# Altium footprint library HTL-part-2021_04.pcblib: 93 footprints (part 3 of 6)
Each footprint in its own frame and in the unit in brackets; x right, y up, seen from the top. Pads: shape width x height; smd on the part's side, far side on the other; paste and mask are expansions set on the pad; w line width, h text height; cw(c..) or ccw(c..) is an arc to the next point about the centre after c.
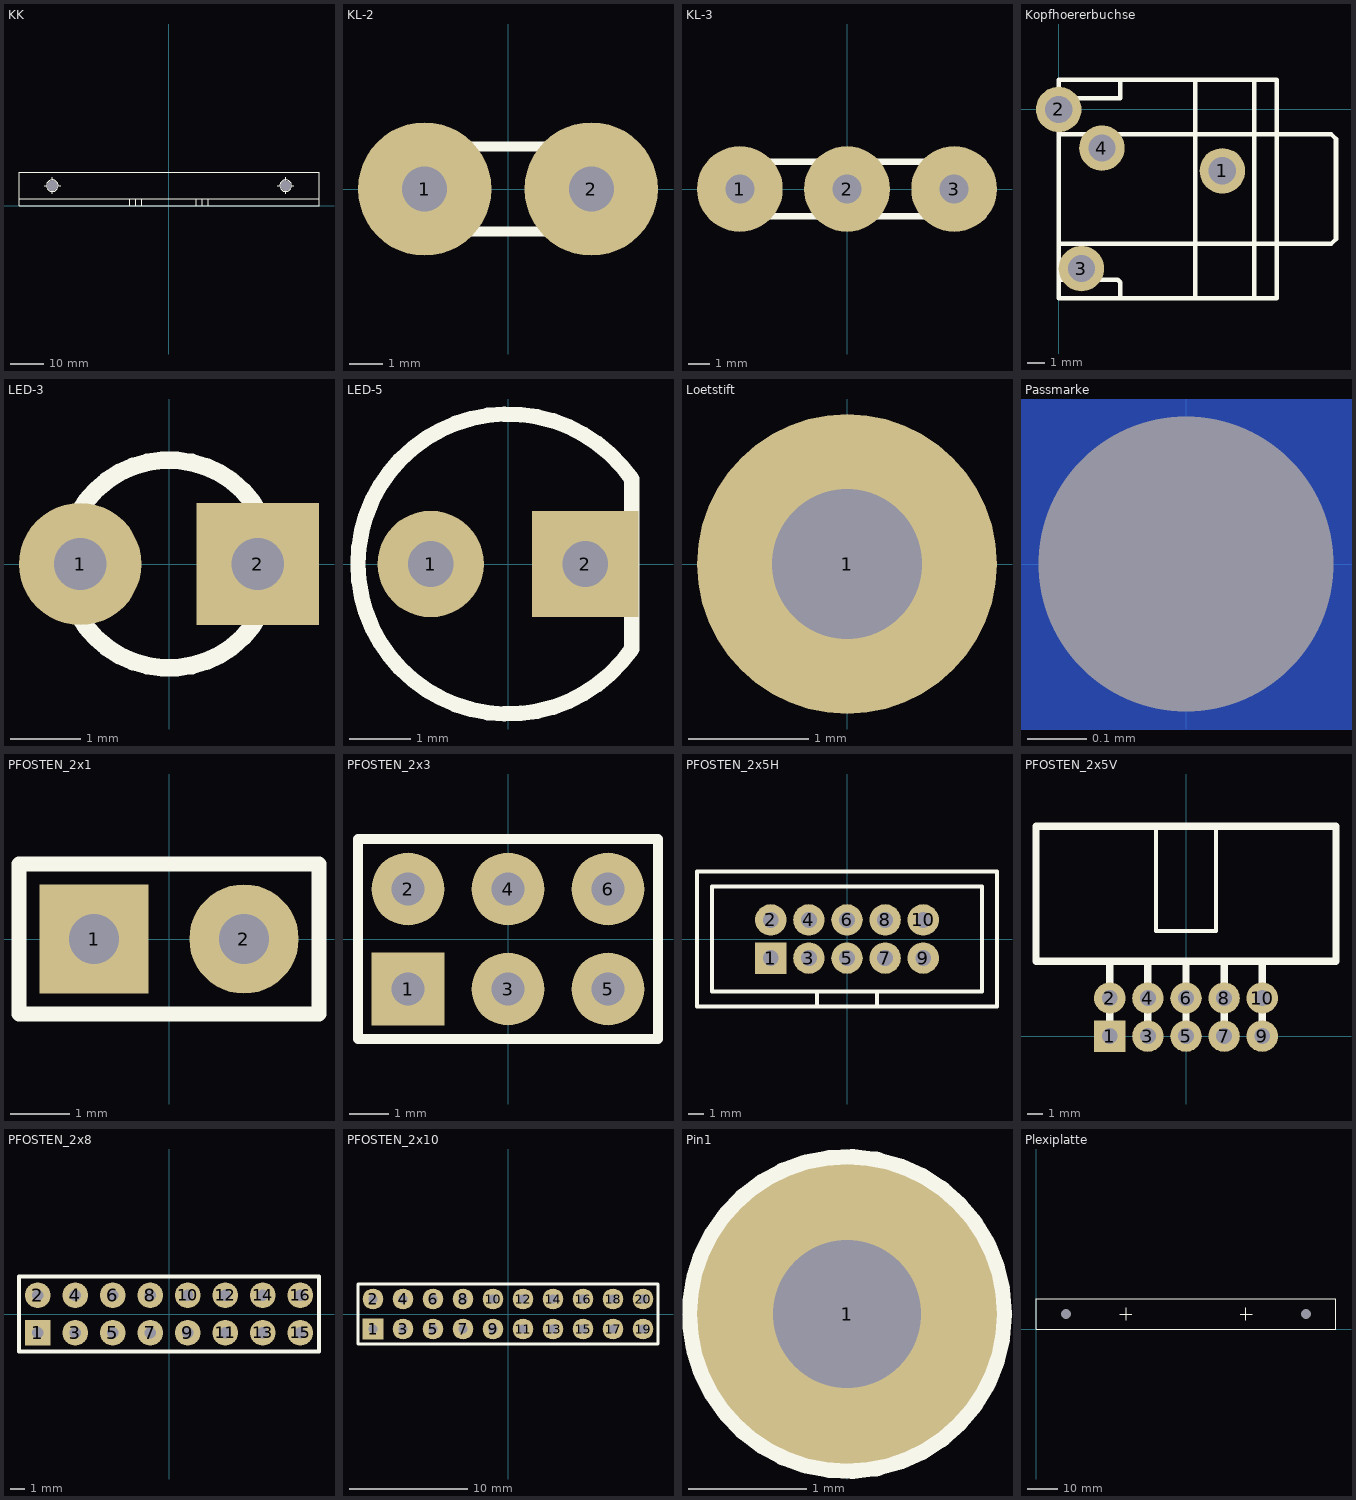
[diagram p2: the footprints below, top view; thin cyan lines are the x and y axes]

## KK [mm]
pads (2):
  rect 0x0 hole 3.2 unplated: 0(-35,6) 0(35,6)
Top Overlay:
  circle w0.254: c-35,6 r1.75
  circle w0.254: c35,6 r1.75
  lines w0.254: -45,2 45,2 ; -37.5,6 -32.5,6 ; -35,3.5 -35,8.5 ; -11.8,0 -11.8,2 ; -10,0 -10,2 ; -8.2,0 -8.2,2 ; 8.2,0 8.2,2 ; 10,0 10,2 ; 11.8,0 11.8,2 ; 32.5,6 37.5,6 ; 35,3.5 35,8.5 ; -45,0 45,0 45,10 -45,10 -45,0

## KL-2 [mm]
height 10
pads (2):
  round 4 hole 1.35: 1(-2.5,0) 2(2.5,0)
Top Overlay:
  lines w0.3: -3.81,-1.27 -3.81,1.27 3.81,1.27 3.81,-1.27 -3.81,-1.27

## KL-3 [mm]
height 10
pads (3):
  round 4 hole 1.35: 1(-5,0) 2(0,0) 3(5,0)
Top Overlay:
  lines w0.3: -5.715,-1.27 6.35,-1.27 6.35,1.27 -5.715,1.27 -5.715,-1.27

## Kopfhoererbuchse [mil]
pads (4):
  round 100 hole 60: 1(360,-135) 2(0,0) 3(50,-350) 4(95,-85)
Top Overlay:
  lines w10: 0,-375 130,-375 135,-380 135,-415 ; 0,-295 480,-295 600,-295 610,-285 610,-65 600,-55 480,-55 0,-55 ; 0,25 135,25 135,65 ; 300,-415 300,65 ; 430,-415 430,65 ; 0,-415 0,65 480,65 480,-415 0,-415

## LED-3 [mm]
pads (2):
  round 1.75 hole 0.75: 1(-1.27,0)
  rect 1.75x1.75 hole 0.75: 2(1.27,0)
Top Overlay:
  lines w0.254: 1.397,-0.508 cw(c0,0) 1.397,0.508 1.397,-0.508

## LED-5 [mm]
pads (2):
  round 1.75 hole 0.75: 1(-1.27,0)
  rect 1.75x1.75 hole 0.75: 2(1.27,0)
Top Overlay:
  lines w0.254: 2.032,-1.397 cw(c0,0) 2.032,1.397 2.032,-1.397

## Loetstift [mm]
pads (1):
  round 2.5 hole 1.25: 1(0,0)

## Passmarke [mm]
pads (1):
  round 0 hole 0.5 unplated: 0(0,0)
Bottom Layer:
  circle w0.5: c0,0 r0.25

## PFOSTEN_2x1 [mm]
pads (2):
  rect 1.85x1.85 hole 0.85 mask+0.102: 1(-1.27,0)
  round 1.85 hole 0.85 mask+0.102: 2(1.27,0)
Top Overlay:
  lines w0.254: -2.54,-1.27 -2.54,1.27 2.54,1.27 2.54,-1.27 -2.54,-1.27

## PFOSTEN_2x3 [mm]
pads (6):
  rect 1.85x1.85 hole 0.85 mask+0.102: 1(-2.54,-1.27)
  round 1.85 hole 0.85 mask+0.102: 2(-2.54,1.27) 3(0,-1.27) 4(0,1.27) 5(2.54,-1.27) 6(2.54,1.27)
Top Overlay:
  lines w0.254: -3.81,-2.54 -3.81,2.54 3.81,2.54 3.81,-2.54 -3.81,-2.54

## PFOSTEN_2x5H [mm]
height 9
pads (10):
  rect 2.1x2.1 hole 1.05 mask+0.102: 1(-5.08,-1.27)
  round 2.1 hole 1.05 mask+0.102: 2(-5.08,1.27) 3(-2.54,-1.27) 4(-2.54,1.27) 5(0,-1.27) 6(0,1.27) 7(2.54,-1.27) 8(2.54,1.27) 9(5.08,-1.27) 10(5.08,1.27)
Top Overlay:
  lines w0.254: -2,-4.5 -2,-3.5 ; -0.5,4.5 10,4.5 10,-4.5 -10,-4.5 -10,4.5 0,4.5 ; 2,-4.5 2,-3.5 ; -9,-3.5 9,-3.5 9,3.5 -9,3.5 -9,-3.5

## PFOSTEN_2x5V [mm]
height 9
pads (10):
  rect 2.1x2.1 hole 1.05 mask+0.102: 1(-5.08,0)
  round 2.1 hole 1.05 mask+0.102: 2(-5.08,2.54) 3(-2.54,0) 4(-2.54,2.54) 5(0,0) 6(0,2.54) 7(2.54,0) 8(2.54,2.54) 9(5.08,0) 10(5.08,2.54)
Top Overlay:
  lines w0.254: -2,14 -2,7 2,7 2,14
  lines w0.5: -5.08,0 -5.08,5 ; -2.54,0 -2.54,5 ; 0,0 0,5 ; 2.54,0 2.54,5 ; 5.08,0 5.08,5 ; 0,5 -10,5 -10,14 10,14 10,5 0,5

## PFOSTEN_2x8 [mm]
pads (16):
  rect 1.75x1.75 hole 0.75: 1(-8.89,-1.27)
  round 1.75 hole 0.75: 2(-8.89,1.27) 3(-6.35,-1.27) 4(-6.35,1.27) 5(-3.81,-1.27) 6(-3.81,1.27) 7(-1.27,-1.27) 8(-1.27,1.27) 9(1.27,-1.27) 10(1.27,1.27) 11(3.81,-1.27) 12(3.81,1.27) 13(6.35,-1.27) 14(6.35,1.27) 15(8.89,-1.27) 16(8.89,1.27)
Top Overlay:
  lines w0.254: -10.16,-2.54 10.16,-2.54 10.16,2.54 -10.16,2.54 -10.16,-2.54

## PFOSTEN_2x10 [mm]
pads (20):
  rect 1.75x1.75 hole 0.75: 1(-11.43,-1.27)
  round 1.75 hole 0.75: 2(-11.43,1.27) 3(-8.89,-1.27) 4(-8.89,1.27) 5(-6.35,-1.27) 6(-6.35,1.27) 7(-3.81,-1.27) 8(-3.81,1.27) 9(-1.27,-1.27) 10(-1.27,1.27) 11(1.27,-1.27) 12(1.27,1.27) 13(3.81,-1.27) 14(3.81,1.27) 15(6.35,-1.27) 16(6.35,1.27) 17(8.89,-1.27) 18(8.89,1.27) 19(11.43,-1.27) 20(11.43,1.27)
Top Overlay:
  lines w0.254: -12.7,-2.54 12.7,-2.54 12.7,2.54 -12.7,2.54 -12.7,-2.54

## Pin1 [mm]
pads (1):
  round 2.54 hole 1.25: 1(0,0)
Top Overlay:
  circle w0.254: c0,0 r1.27

## Plexiplatte [mm]
height 60
pads (2):
  round 1.524 hole 3.2 unplated: 0(10,5) 0(90,5)
Top Overlay:
  lines w0.1: 28,5 32,5 ; 30,3 30,7 ; 68,5 72,5 ; 70,3 70,7
  lines w0.3: 0,0 100,0 100,10 0,10 0,0